# Altium footprint library Connectors.PcbLib: 34 footprints (part 1 of 3)
Each footprint in its own frame and in the unit in brackets; x right, y up, seen from the top. Pads: shape width x height; smd on the part's side, far side on the other; paste and mask are expansions set on the pad; w line width, h text height; cw(c..) or ccw(c..) is an arc to the next point about the centre after c.
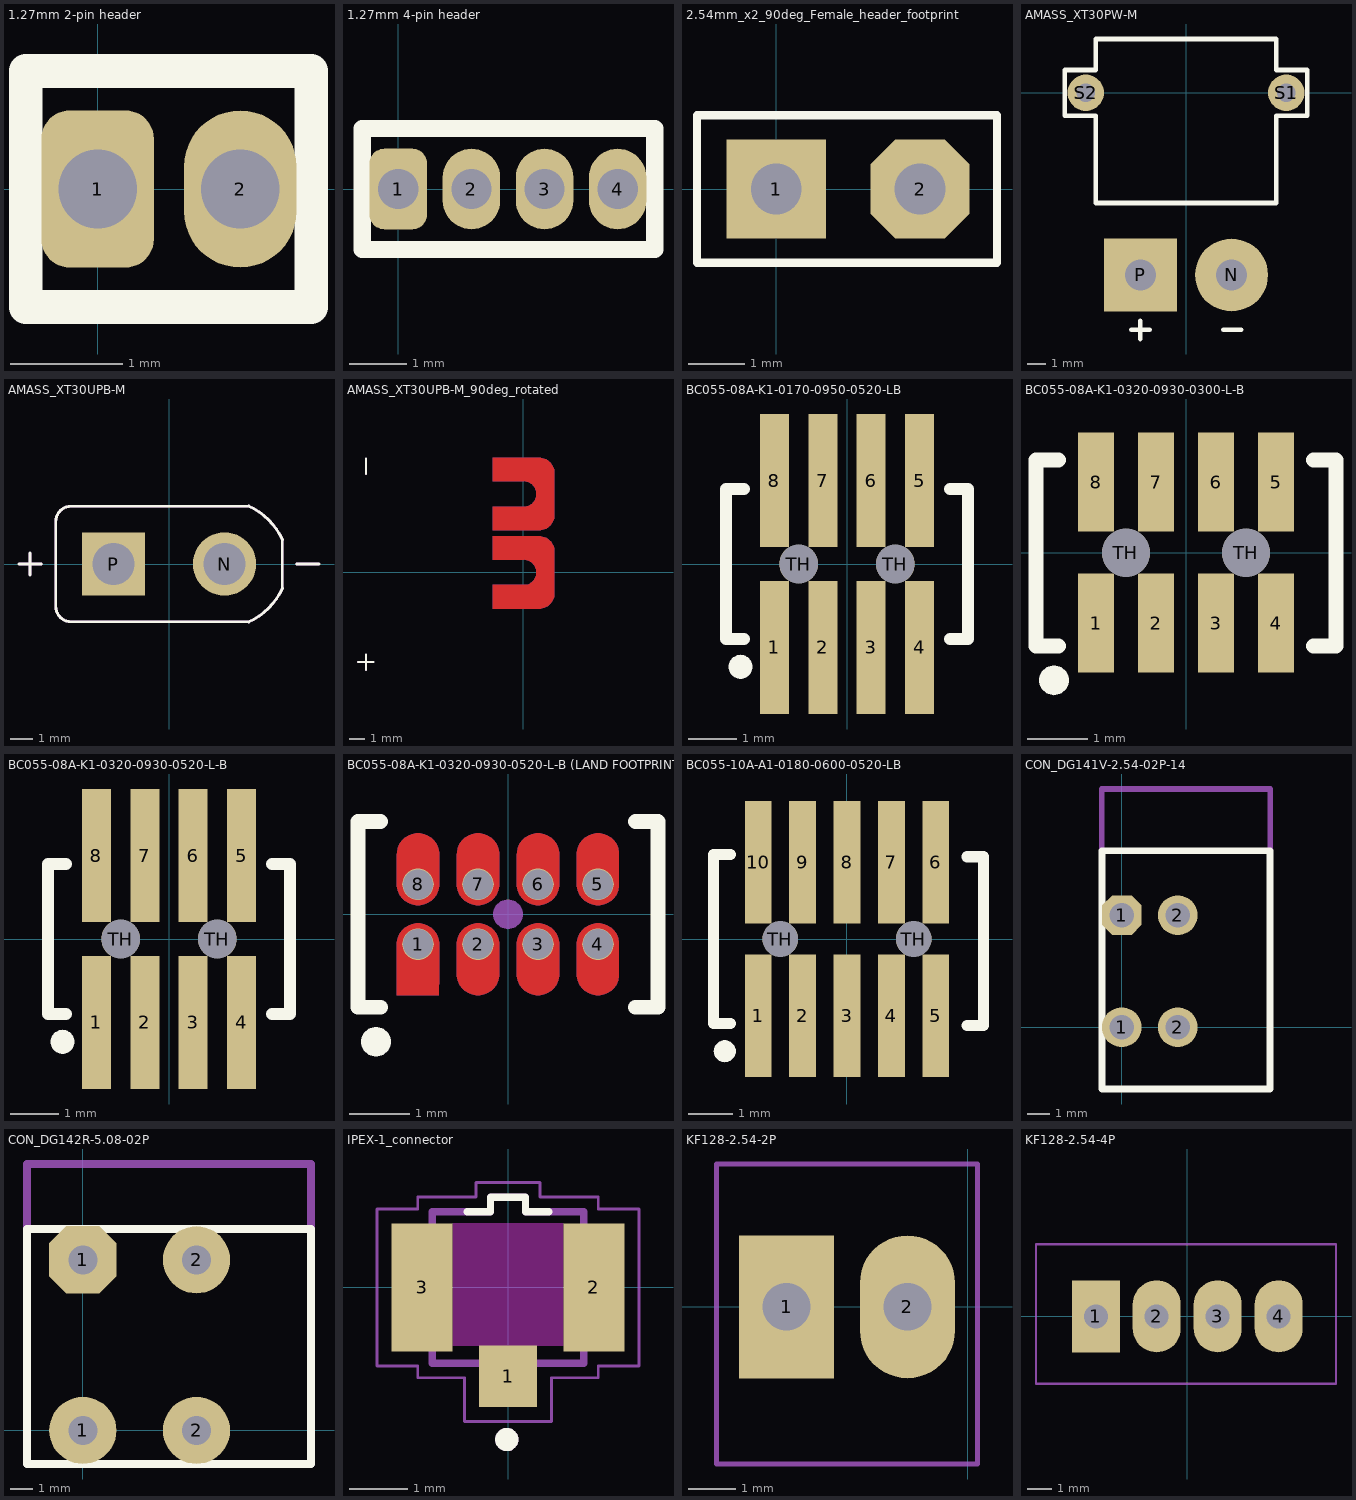
[diagram p0: the footprints below, top view; thin cyan lines are the x and y axes]

## 1.27mm 2-pin header [mm]
pads (2):
  rrect50% 1x1.4 hole 0.7: 1(0,0)
  oval 1x1.4 hole 0.7: 2(1.27,0)
Top Overlay:
  lines w0.3: -0.64,-1.05 1.9,-1.05 1.9,1.05 -0.64,1.05 -0.64,-1.05

## 1.27mm 4-pin header [mm]
pads (4):
  rrect50% 1x1.4 hole 0.7: 1(0,0)
  oval 1x1.4 hole 0.7: 2(1.27,0) 3(2.54,0) 4(3.81,0)
Top Overlay:
  lines w0.3: -0.625,-1.05 4.455,-1.05 4.455,1.05 -0.625,1.05 -0.625,-1.05

## 2.54mm_x2_90deg_Female_header_footprint [mm]
pads (2):
  rect 1.75x1.75 hole 0.9: 1(0,0)
  oct 1.75x1.75 hole 0.9: 2(2.54,0)
Top Overlay:
  lines w0.15: -1.4,-1.3 3.9,-1.3 3.9,1.3 -1.4,1.3 -1.4,-1.3
3D body "1x02_P2.54mm_90deg_female.step": height 2.54, standoff -3.3, extent -1.285,-0.175 3.795,9.955

## AMASS_XT30PW-M [mm]
height 5
pads (4):
  round 4 hole 1.7: N(2.5,-10)
  rect 4x4 hole 1.7: P(-2.5,-10)
  round 2 hole 1: S1(5.5,0) S2(-5.5,0)
Top Overlay:
  lines w0.25: -3,-13.012 -2,-13.012 ; -2.5,-13.512 -2.5,-12.512 ; 2.032,-13.012 3.032,-13.012 ; -6.65,-1.25 -6.65,1.25 -4.95,1.25 -4.95,2.95 4.95,2.95 4.95,1.25 6.65,1.25 6.65,-1.25 4.95,-1.25 4.95,-6.05 -4.95,-6.05 -4.95,-1.25 -6.65,-1.25
Mechanical 13:
  lines w0.127: -6.65,-1.25 -6.65,1.25 -4.95,1.25 -4.95,2.95 4.95,2.95 4.95,1.25 6.65,1.25 6.65,-1.25 4.95,-1.25 4.95,-6.05 -4.95,-6.05 -4.95,-1.25 -6.65,-1.25
3D body "step_temp.STEP": height 5, standoff -2, extent -6.65,-11 6.65,2.95

## AMASS_XT30UPB-M [mm]
height 10.7
pads (2):
  round 2.85 hole 1.9 mask+0.102: N(2.5,0)
  rect 2.85x2.85 / inner round 2.85 / far side rect 2.85x2.85 hole 1.9 mask+0.102: P(-2.5,0)
Top Overlay:
  lines w0.127: -6.75,0 -5.75,0 ; -6.25,-0.5 -6.25,0.5 ; 3.586,-2.606 ccw(c2.366,0.134) 5.106,-1.086 ; 3.586,2.606 cw(c2.366,-0.134) 5.106,1.086 ; 3.6,-2.6 -4.4,-2.6 cw(c-4.4,-1.9) -5.1,-1.9 -5.1,1.9 cw(c-4.4,1.9) -4.4,2.6 3.6,2.6 ; 5.1,-1.1 5.1,1.1 ; 5.75,0 6.75,0
Mechanical 13:
  lines w0.127: -6.75,0 -5.75,0 ; -6.25,-0.5 -6.25,0.5 ; 3.586,-2.606 ccw(c2.366,0.134) 5.106,-1.086 ; 3.586,2.606 cw(c2.366,-0.134) 5.106,1.086 ; 3.6,-2.6 -4.4,-2.6 cw(c-4.4,-1.9) -5.1,-1.9 -5.1,1.9 cw(c-4.4,1.9) -4.4,2.6 3.6,2.6 ; 5.1,-1.1 5.1,1.1 ; 5.75,0 6.75,0
3D body "step_temp.STEP": height 10.7, standoff -2, extent -5.1,-2.6 5.1,2.6

## AMASS_XT30UPB-M_90deg_rotated [mm] "Rotated 90deg"
height 10.7
pads (2):
  round 0.025 all layers, no hole: 1(1.4,-0.1) 2(1.4,4.9)
Top Layer:
  region: -1.95,2.675 -1.95,4.175 0.05,4.175 0.113,4.177 0.237,4.197 0.356,4.236 0.468,4.293 0.57,4.367 0.658,4.455 0.732,4.557 0.789,4.669 0.828,4.788 0.848,4.912 0.848,5.038 0.828,5.162 0.789,5.281 0.732,5.393 0.658,5.495 0.57,5.583 0.468,5.657 0.356,5.714 0.237,5.753 0.113,5.773 0.05,5.775 -1.95,5.775 -1.95,7.275 1.05,7.275 1.112,7.275 1.236,7.259 1.356,7.226 1.472,7.179 1.58,7.116 1.679,7.04 1.767,6.952 1.843,6.853 1.905,6.745 1.953,6.63 1.985,6.51 2.001,6.386 2.001,6.324 2.001,3.626 2.001,3.564 1.985,3.44 1.953,3.32 1.905,3.205 1.843,3.097 1.767,2.998 1.679,2.91 1.58,2.834 1.472,2.771 1.356,2.724 1.236,2.691 1.112,2.675 1.05,2.675
  region: -1.95,-2.325 -1.95,-0.825 0.05,-0.825 0.113,-0.823 0.237,-0.803 0.356,-0.764 0.468,-0.707 0.57,-0.633 0.658,-0.545 0.732,-0.443 0.789,-0.331 0.828,-0.212 0.848,-0.088 0.848,0.038 0.828,0.162 0.789,0.281 0.732,0.393 0.658,0.495 0.57,0.583 0.468,0.657 0.356,0.714 0.237,0.753 0.113,0.773 0.05,0.775 -1.95,0.775 -1.95,2.275 1.05,2.275 1.112,2.275 1.236,2.259 1.356,2.226 1.472,2.179 1.58,2.116 1.679,2.04 1.767,1.952 1.843,1.853 1.905,1.745 1.953,1.63 1.985,1.51 2.001,1.386 2.001,1.324 2.001,-1.374 2.001,-1.436 1.985,-1.56 1.953,-1.68 1.905,-1.795 1.843,-1.903 1.767,-2.002 1.679,-2.09 1.58,-2.166 1.472,-2.229 1.356,-2.276 1.236,-2.309 1.112,-2.325 1.05,-2.325
Bottom Layer:
  region: -1.95,2.675 -1.95,4.175 0.05,4.175 0.113,4.177 0.237,4.197 0.356,4.236 0.468,4.293 0.57,4.367 0.658,4.455 0.732,4.557 0.789,4.669 0.828,4.788 0.848,4.912 0.848,5.038 0.828,5.162 0.789,5.281 0.732,5.393 0.658,5.495 0.57,5.583 0.468,5.657 0.356,5.714 0.237,5.753 0.113,5.773 0.05,5.775 -1.95,5.775 -1.95,7.275 1.05,7.275 1.112,7.275 1.236,7.259 1.356,7.226 1.472,7.179 1.58,7.116 1.679,7.04 1.767,6.952 1.843,6.853 1.905,6.745 1.953,6.63 1.985,6.51 2.001,6.386 2.001,6.324 2.001,3.626 2.001,3.564 1.985,3.44 1.953,3.32 1.905,3.205 1.843,3.097 1.767,2.998 1.679,2.91 1.58,2.834 1.472,2.771 1.356,2.724 1.236,2.691 1.112,2.675 1.05,2.675
  region: -1.95,-2.325 -1.95,-0.825 0.05,-0.825 0.113,-0.823 0.237,-0.803 0.356,-0.764 0.468,-0.707 0.57,-0.633 0.658,-0.545 0.732,-0.443 0.789,-0.331 0.828,-0.212 0.848,-0.088 0.848,0.038 0.828,0.162 0.789,0.281 0.732,0.393 0.658,0.495 0.57,0.583 0.468,0.657 0.356,0.714 0.237,0.753 0.113,0.773 0.05,0.775 -1.95,0.775 -1.95,2.275 1.05,2.275 1.112,2.275 1.236,2.259 1.356,2.226 1.472,2.179 1.58,2.116 1.679,2.04 1.767,1.952 1.843,1.853 1.905,1.745 1.953,1.63 1.985,1.51 2.001,1.386 2.001,1.324 2.001,-1.374 2.001,-1.436 1.985,-1.56 1.953,-1.68 1.905,-1.795 1.843,-1.903 1.767,-2.002 1.679,-2.09 1.58,-2.166 1.472,-2.229 1.356,-2.276 1.236,-2.309 1.112,-2.325 1.05,-2.325
Top Overlay:
  lines w0.127: -10.525,-5.75 -9.525,-5.75 ; -10.025,-6.25 -10.025,-5.25 ; -10.025,6.25 -10.025,7.25
Mechanical 13:
  lines w0.127: -10.525,-5.75 -9.525,-5.75 ; -10.025,-6.25 -10.025,-5.25 ; -10.025,6.25 -10.025,7.25
Multi-Layer:
  lines w0.1: 4.65,-0.275 4.65,1.225 6.65,1.225 ccw(c6.65,2.025) 6.65,2.825 4.65,2.825 4.65,4.325 7.65,4.325 cw(c7.65,3.374) 8.601,3.374 8.601,0.676 cw(c7.65,0.676) 7.65,-0.275 4.65,-0.275
3D body "step_temp.STEP": height 2.6, standoff -2.6, extent -12.675,-2.625 0.025,7.575

## BC055-08A-K1-0170-0950-0520-LB [mm] "5.2 мм основание / 9.5 мм длина / 9.5 - 1.7 мм посадка"
pads (11):
  rect 0.6x2.75 smd: 1(-1.5,-1.725) 2(-0.5,-1.725) 3(0.5,-1.725) 4(1.5,-1.725) 5(1.5,1.725) 6(0.5,1.725) 7(-0.5,1.725) 8(-1.5,1.725)
  round 0.5 on Top Overlay paste-2539.97 mask+0: StartPin(-2.2,-2.125)
  round 0.8 hole 0.8 unplated paste-2539.97 mask+0: TH(-1,0) TH(1,0)
Top Overlay:
  lines w0.25: -2.127,-1.55 -2.5,-1.55 -2.5,1.55 -2.127,1.55 ; 2.127,-1.55 2.5,-1.55 2.5,1.55 2.127,1.55
3D body "BC055-08A-K1-0170-0950-0520-LB.stp": height 11.2, standoff -0.7, extent -2.1,-2.6 2.1,2.6

## BC055-08A-K1-0320-0930-0300-L-B [mm] "3мм основание"
pads (11):
  rect 0.6x1.65 smd: 1(-1.5,-1.175) 2(-0.5,-1.175) 3(0.5,-1.175) 4(1.5,-1.175) 5(1.5,1.175) 6(0.5,1.175) 7(-0.5,1.175) 8(-1.5,1.175)
  round 0.5 on Top Overlay paste-2539.97 mask+0: StartPin(-2.2,-2.125)
  round 0.8 hole 0.8 unplated paste-2539.97 mask+0: TH(-1,0) TH(1,0)
Top Overlay:
  lines w0.25: -2.127,-1.55 -2.5,-1.55 -2.5,1.55 -2.127,1.55 ; 2.127,-1.55 2.5,-1.55 2.5,1.55 2.127,1.55
3D body "BC055-08A-K0-0320-0930-0520-LB.stp": height 12.5, standoff 0, extent -2.1,-2.525 2.1,2.675

## BC055-08A-K1-0320-0930-0520-L-B [mm] "5.2 мм основание"
pads (11):
  rect 0.6x2.75 smd: 1(-1.5,-1.725) 2(-0.5,-1.725) 3(0.5,-1.725) 4(1.5,-1.725) 5(1.5,1.725) 6(0.5,1.725) 7(-0.5,1.725) 8(-1.5,1.725)
  round 0.5 on Top Overlay paste-2539.97 mask+0: StartPin(-2.2,-2.125)
  round 0.8 hole 0.8 unplated paste-2539.97 mask+0: TH(-1,0) TH(1,0)
Top Overlay:
  lines w0.25: -2.127,-1.55 -2.5,-1.55 -2.5,1.55 -2.127,1.55 ; 2.127,-1.55 2.5,-1.55 2.5,1.55 2.127,1.55
3D body "BC055-08A-K0-0320-0930-0520-LB.stp": height 12.5, standoff 0, extent -2.1,-2.6 2.1,2.6

## BC055-08A-K1-0320-0930-0520-L-B (LAND FOOTPRINT) [mm] "Ответная часть коннектора. / Вобще то расчитана на вилку, но этот футпринт для прямой пайки в плату / 0.3 мм сторона квадратного штыря"
pads (10):
  round 0.525 hole 0.5 unplated paste-2539.97 mask+0: 1(-1.5,-0.5) 2(-0.5,-0.5) 3(0.5,-0.5) 4(1.5,-0.5) 5(1.5,0.5) 6(0.5,0.5) 7(-0.5,0.5) 8(-1.5,0.5)
  round 0.5 on Mech13 paste-2539.97 mask+0: "Center Pin"(0,0)
  round 0.5 on Top Overlay paste-2539.97 mask+0: StartPin(-2.2,-2.125)
Top Layer:
  region: -1.85,-1.35 -1.85,-0.5 -1.85,-0.466 -1.837,-0.398 -1.81,-0.334 -1.772,-0.277 -1.723,-0.228 -1.666,-0.19 -1.602,-0.163 -1.534,-0.15 -1.466,-0.15 -1.398,-0.163 -1.334,-0.19 -1.277,-0.228 -1.228,-0.277 -1.19,-0.334 -1.163,-0.398 -1.15,-0.466 -1.15,-0.5 -1.15,-1 -1.15,-1.35
  region: -0.85,-1 -0.85,-1.034 -0.837,-1.102 -0.81,-1.166 -0.772,-1.223 -0.723,-1.272 -0.666,-1.31 -0.602,-1.337 -0.534,-1.35 -0.466,-1.35 -0.398,-1.337 -0.334,-1.31 -0.277,-1.272 -0.228,-1.223 -0.19,-1.166 -0.163,-1.102 -0.15,-1.034 -0.15,-1 -0.15,-0.5 -0.15,-0.466 -0.163,-0.398 -0.19,-0.334 -0.228,-0.277 -0.277,-0.228 -0.334,-0.19 -0.398,-0.163 -0.466,-0.15 -0.534,-0.15 -0.602,-0.163 -0.666,-0.19 -0.723,-0.228 -0.772,-0.277 -0.81,-0.334 -0.837,-0.398 -0.85,-0.466 -0.85,-0.5
  region: 0.15,-1 0.15,-1.034 0.163,-1.102 0.19,-1.166 0.228,-1.223 0.277,-1.272 0.334,-1.31 0.398,-1.337 0.466,-1.35 0.534,-1.35 0.602,-1.337 0.666,-1.31 0.723,-1.272 0.772,-1.223 0.81,-1.166 0.837,-1.102 0.85,-1.034 0.85,-1 0.85,-0.5 0.85,-0.466 0.837,-0.398 0.81,-0.334 0.772,-0.277 0.723,-0.228 0.666,-0.19 0.602,-0.163 0.534,-0.15 0.466,-0.15 0.398,-0.163 0.334,-0.19 0.277,-0.228 0.228,-0.277 0.19,-0.334 0.163,-0.398 0.15,-0.466 0.15,-0.5
  region: 1.15,-1 1.15,-1.034 1.163,-1.102 1.19,-1.166 1.228,-1.223 1.277,-1.272 1.334,-1.31 1.398,-1.337 1.466,-1.35 1.534,-1.35 1.602,-1.337 1.666,-1.31 1.723,-1.272 1.772,-1.223 1.81,-1.166 1.837,-1.102 1.85,-1.034 1.85,-1 1.85,-0.5 1.85,-0.466 1.837,-0.398 1.81,-0.334 1.772,-0.277 1.723,-0.228 1.666,-0.19 1.602,-0.163 1.534,-0.15 1.466,-0.15 1.398,-0.163 1.334,-0.19 1.277,-0.228 1.228,-0.277 1.19,-0.334 1.163,-0.398 1.15,-0.466 1.15,-0.5
  region: -1.15,1 -1.15,1.034 -1.163,1.102 -1.19,1.166 -1.228,1.223 -1.277,1.272 -1.334,1.31 -1.398,1.337 -1.466,1.35 -1.534,1.35 -1.602,1.337 -1.666,1.31 -1.723,1.272 -1.772,1.223 -1.81,1.166 -1.837,1.102 -1.85,1.034 -1.85,1 -1.85,0.5 -1.85,0.466 -1.837,0.398 -1.81,0.334 -1.772,0.277 -1.723,0.228 -1.666,0.19 -1.602,0.163 -1.534,0.15 -1.466,0.15 -1.398,0.163 -1.334,0.19 -1.277,0.228 -1.228,0.277 -1.19,0.334 -1.163,0.398 -1.15,0.466 -1.15,0.5
  region: -0.15,1 -0.15,1.034 -0.163,1.102 -0.19,1.166 -0.228,1.223 -0.277,1.272 -0.334,1.31 -0.398,1.337 -0.466,1.35 -0.534,1.35 -0.602,1.337 -0.666,1.31 -0.723,1.272 -0.772,1.223 -0.81,1.166 -0.837,1.102 -0.85,1.034 -0.85,1 -0.85,0.5 -0.85,0.466 -0.837,0.398 -0.81,0.334 -0.772,0.277 -0.723,0.228 -0.666,0.19 -0.602,0.163 -0.534,0.15 -0.466,0.15 -0.398,0.163 -0.334,0.19 -0.277,0.228 -0.228,0.277 -0.19,0.334 -0.163,0.398 -0.15,0.466 -0.15,0.5
  region: 0.85,1 0.85,1.034 0.837,1.102 0.81,1.166 0.772,1.223 0.723,1.272 0.666,1.31 0.602,1.337 0.534,1.35 0.466,1.35 0.398,1.337 0.334,1.31 0.277,1.272 0.228,1.223 0.19,1.166 0.163,1.102 0.15,1.034 0.15,1 0.15,0.5 0.15,0.466 0.163,0.398 0.19,0.334 0.228,0.277 0.277,0.228 0.334,0.19 0.398,0.163 0.466,0.15 0.534,0.15 0.602,0.163 0.666,0.19 0.723,0.228 0.772,0.277 0.81,0.334 0.837,0.398 0.85,0.466 0.85,0.5
  region: 1.85,1 1.85,1.034 1.837,1.102 1.81,1.166 1.772,1.223 1.723,1.272 1.666,1.31 1.602,1.337 1.534,1.35 1.466,1.35 1.398,1.337 1.334,1.31 1.277,1.272 1.228,1.223 1.19,1.166 1.163,1.102 1.15,1.034 1.15,1 1.15,0.5 1.15,0.466 1.163,0.398 1.19,0.334 1.228,0.277 1.277,0.228 1.334,0.19 1.398,0.163 1.466,0.15 1.534,0.15 1.602,0.163 1.666,0.19 1.723,0.228 1.772,0.277 1.81,0.334 1.837,0.398 1.85,0.466 1.85,0.5
Bottom Layer:
  region: -1.85,-1.35 -1.85,-0.5 -1.85,-0.466 -1.837,-0.398 -1.81,-0.334 -1.772,-0.277 -1.723,-0.228 -1.666,-0.19 -1.602,-0.163 -1.534,-0.15 -1.466,-0.15 -1.398,-0.163 -1.334,-0.19 -1.277,-0.228 -1.228,-0.277 -1.19,-0.334 -1.163,-0.398 -1.15,-0.466 -1.15,-0.5 -1.15,-1 -1.15,-1.35
  region: -0.85,-1 -0.85,-1.034 -0.837,-1.102 -0.81,-1.166 -0.772,-1.223 -0.723,-1.272 -0.666,-1.31 -0.602,-1.337 -0.534,-1.35 -0.466,-1.35 -0.398,-1.337 -0.334,-1.31 -0.277,-1.272 -0.228,-1.223 -0.19,-1.166 -0.163,-1.102 -0.15,-1.034 -0.15,-1 -0.15,-0.5 -0.15,-0.466 -0.163,-0.398 -0.19,-0.334 -0.228,-0.277 -0.277,-0.228 -0.334,-0.19 -0.398,-0.163 -0.466,-0.15 -0.534,-0.15 -0.602,-0.163 -0.666,-0.19 -0.723,-0.228 -0.772,-0.277 -0.81,-0.334 -0.837,-0.398 -0.85,-0.466 -0.85,-0.5
  region: 0.15,-1 0.15,-1.034 0.163,-1.102 0.19,-1.166 0.228,-1.223 0.277,-1.272 0.334,-1.31 0.398,-1.337 0.466,-1.35 0.534,-1.35 0.602,-1.337 0.666,-1.31 0.723,-1.272 0.772,-1.223 0.81,-1.166 0.837,-1.102 0.85,-1.034 0.85,-1 0.85,-0.5 0.85,-0.466 0.837,-0.398 0.81,-0.334 0.772,-0.277 0.723,-0.228 0.666,-0.19 0.602,-0.163 0.534,-0.15 0.466,-0.15 0.398,-0.163 0.334,-0.19 0.277,-0.228 0.228,-0.277 0.19,-0.334 0.163,-0.398 0.15,-0.466 0.15,-0.5
  region: 1.15,-1 1.15,-1.034 1.163,-1.102 1.19,-1.166 1.228,-1.223 1.277,-1.272 1.334,-1.31 1.398,-1.337 1.466,-1.35 1.534,-1.35 1.602,-1.337 1.666,-1.31 1.723,-1.272 1.772,-1.223 1.81,-1.166 1.837,-1.102 1.85,-1.034 1.85,-1 1.85,-0.5 1.85,-0.466 1.837,-0.398 1.81,-0.334 1.772,-0.277 1.723,-0.228 1.666,-0.19 1.602,-0.163 1.534,-0.15 1.466,-0.15 1.398,-0.163 1.334,-0.19 1.277,-0.228 1.228,-0.277 1.19,-0.334 1.163,-0.398 1.15,-0.466 1.15,-0.5
  region: -1.15,1 -1.15,1.034 -1.163,1.102 -1.19,1.166 -1.228,1.223 -1.277,1.272 -1.334,1.31 -1.398,1.337 -1.466,1.35 -1.534,1.35 -1.602,1.337 -1.666,1.31 -1.723,1.272 -1.772,1.223 -1.81,1.166 -1.837,1.102 -1.85,1.034 -1.85,1 -1.85,0.5 -1.85,0.466 -1.837,0.398 -1.81,0.334 -1.772,0.277 -1.723,0.228 -1.666,0.19 -1.602,0.163 -1.534,0.15 -1.466,0.15 -1.398,0.163 -1.334,0.19 -1.277,0.228 -1.228,0.277 -1.19,0.334 -1.163,0.398 -1.15,0.466 -1.15,0.5
  region: -0.15,1 -0.15,1.034 -0.163,1.102 -0.19,1.166 -0.228,1.223 -0.277,1.272 -0.334,1.31 -0.398,1.337 -0.466,1.35 -0.534,1.35 -0.602,1.337 -0.666,1.31 -0.723,1.272 -0.772,1.223 -0.81,1.166 -0.837,1.102 -0.85,1.034 -0.85,1 -0.85,0.5 -0.85,0.466 -0.837,0.398 -0.81,0.334 -0.772,0.277 -0.723,0.228 -0.666,0.19 -0.602,0.163 -0.534,0.15 -0.466,0.15 -0.398,0.163 -0.334,0.19 -0.277,0.228 -0.228,0.277 -0.19,0.334 -0.163,0.398 -0.15,0.466 -0.15,0.5
  region: 0.85,1 0.85,1.034 0.837,1.102 0.81,1.166 0.772,1.223 0.723,1.272 0.666,1.31 0.602,1.337 0.534,1.35 0.466,1.35 0.398,1.337 0.334,1.31 0.277,1.272 0.228,1.223 0.19,1.166 0.163,1.102 0.15,1.034 0.15,1 0.15,0.5 0.15,0.466 0.163,0.398 0.19,0.334 0.228,0.277 0.277,0.228 0.334,0.19 0.398,0.163 0.466,0.15 0.534,0.15 0.602,0.163 0.666,0.19 0.723,0.228 0.772,0.277 0.81,0.334 0.837,0.398 0.85,0.466 0.85,0.5
  region: 1.85,1 1.85,1.034 1.837,1.102 1.81,1.166 1.772,1.223 1.723,1.272 1.666,1.31 1.602,1.337 1.534,1.35 1.466,1.35 1.398,1.337 1.334,1.31 1.277,1.272 1.228,1.223 1.19,1.166 1.163,1.102 1.15,1.034 1.15,1 1.15,0.5 1.15,0.466 1.163,0.398 1.19,0.334 1.228,0.277 1.277,0.228 1.334,0.19 1.398,0.163 1.466,0.15 1.534,0.15 1.602,0.163 1.666,0.19 1.723,0.228 1.772,0.277 1.81,0.334 1.837,0.398 1.85,0.466 1.85,0.5
Top Overlay:
  lines w0.25: -2.127,-1.55 -2.5,-1.55 -2.5,1.55 -2.127,1.55 ; 2.127,-1.55 2.5,-1.55 2.5,1.55 2.127,1.55

## BC055-10A-A1-0180-0600-0520-LB [mm] "5.2 мм основание / 6 мм длина / 1.8 мм посадка"
pads (13):
  rect 0.6x2.75 smd: 1(-2,-1.725) 2(-1,-1.725) 3(0,-1.725) 4(1,-1.725) 5(2,-1.725) 6(2,1.725) 7(1,1.725) 8(0,1.725) 9(-1,1.725) 10(-2,1.725)
  round 0.5 on Top Overlay paste-2539.97 mask+0: StartPin(-2.75,-2.525)
  round 0.8 hole 0.8 unplated paste-2539.97 mask+0: TH(-1.5,0) TH(1.5,0)
Top Overlay:
  lines w0.25: -2.627,-1.9 -3,-1.9 -3,1.9 -2.627,1.9 ; 2.702,-1.95 3.075,-1.95 3.075,1.85 2.702,1.85
3D body "BC055-10A-A1-0180-0600-0520-LB.stp": height 7.5, standoff -1, extent -2.6,-2.6 2.6,2.6

## CON_DG141V-2.54-02P-14 [mm] "Footprint for the / DG141V-2.54-02P"
pads (4):
  round 1.8 hole 1.1: 1(0,0) 2(2.54,0) 2(2.54,5.08)
  oct 1.8x1.8 hole 1.1: 1(0,5.08)
Top Overlay:
  lines w0.3: -0.9,-2.8 6.72,-2.8 6.72,8 -0.9,8 -0.9,-2.8
Mechanical 13:
  lines w0.25: -0.9,8 6.72,8 6.72,10.8 -0.9,10.8 -0.9,8
  text "LOCK" at 0.2,8.53 h1.6
3D body: height 13.6, standoff 0, extent -0.9,-2.8 6.72,10.8

## CON_DG142R-5.08-02P [mm] "Footprint for the / DG142R-5.08-02P"
pads (4):
  round 3 hole 1.3: 1(0,0) 2(5.08,0) 2(5.08,7.62)
  oct 3x3 hole 1.3: 1(0,7.62)
Top Overlay:
  lines w0.35: -2.5,-1.5 10.2,-1.5 10.2,9 -2.5,9 -2.5,-1.5
Mechanical 13:
  lines w0.35: -2.5,9 10.2,9 10.2,11.9 -2.5,11.9 -2.5,9
  text "LOCK" at 0.9,9.6 h1.8

## IPEX-1_connector [mm] "IPEX_20279-001E-03 / External antenna conector"
height 1.25
pads (3):
  rect 1x1.05 smd: 1(0,-1.525)
  rect 1.05x2.2 smd: 2(1.475,0) 3(-1.475,0)
Top Overlay:
  circle w0.2: c-0.02,-2.61 r0.1
  lines w0.127: -0.7,1.3 -0.3,1.3 -0.3,1.55 0.3,1.55 0.3,1.3 0.7,1.3
Keep-Out Layer:
  region: 0.95,-1 -0.95,-1 -0.95,1.1 0.95,1.1
Mechanical 13:
  circle w0.2: c-0.02,-2.61 r0.1
  lines w0.127: -1.5,-0.9 -1.3,-0.9 -1.3,-1.3 -0.3,-1.3 -0.3,-1.55 0.3,-1.55 0.3,-1.3 1.3,-1.3 1.3,-0.9 1.5,-0.9 1.5,0.9 1.3,0.9 1.3,1.3 0.3,1.3 0.3,1.55 -0.3,1.55 -0.3,1.3 -1.3,1.3 -1.3,0.9 -1.5,0.9 -1.5,-0.9
Mechanical 15:
  lines w0.05: -2.25,-1.35 -2.25,1.35 -1.55,1.35 -1.55,1.55 -0.55,1.55 -0.55,1.8 0.55,1.8 0.55,1.55 1.55,1.55 1.55,1.35 2.25,1.35 2.25,-1.35 1.55,-1.35 1.55,-1.55 0.75,-1.55 0.75,-2.3 -0.75,-2.3 -0.75,-1.55 -1.55,-1.55 -1.55,-1.35 -2.25,-1.35
3D body "step_temp.STEP": height 1.25, standoff 0, extent -1.5,-1.55 1.5,1.55

## KF128-2.54-2P [mm]
pads (2):
  rect 2x3 hole 1: 1(-3.81,0)
  oval 2x3 hole 1: 2(-1.27,0)
Mechanical 13:
  lines w0.1: -5.28,-3.3 0.2,-3.3 0.2,3 -5.28,3 -5.28,-3.3
  text "Top" at -3.5,-2.8 h0.6

## KF128-2.54-4P [mm]
pads (4):
  rect 2x3 hole 1: 1(-3.81,0)
  oval 2x3 hole 1: 2(-1.27,0) 3(1.27,0) 4(3.81,0)
Mechanical 13:
  lines w0.1: -6.3,-2.8 6.2,-2.8 6.2,3 -6.3,3 -6.3,-2.8
  text "Top" at -0.8,-2.3 h0.6